# Altium schematic symbol library Schlib1.SchLib: 2 symbols
Pins are listed as number, name and electrical type; pins without a type are passive.

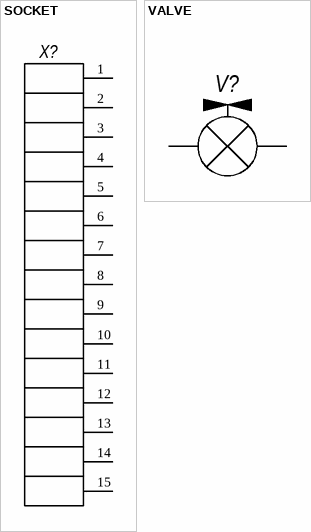
[diagram p0: symbols SOCKET to VALVE]

## SOCKET
designator X?  (value not drawn)
footprint SOCKET
pins: 1, 2, 3, 4, 5, 6, 7, 8, 9, 10, 11, 12, 13, 14, 15

## VALVE
designator V?, comment Обозначение при заказе  (value not drawn)
Описание свойств компонента
footprint Вилка на плату
pins: 1, 2